# Altium footprint library lightshow.PcbLib: 7 footprints
Each footprint in its own frame and in the unit in brackets; x right, y up, seen from the top. Pads: shape width x height; smd on the part's side, far side on the other; paste and mask are expansions set on the pad; w line width, h text height; cw(c..) or ccw(c..) is an arc to the next point about the centre after c.
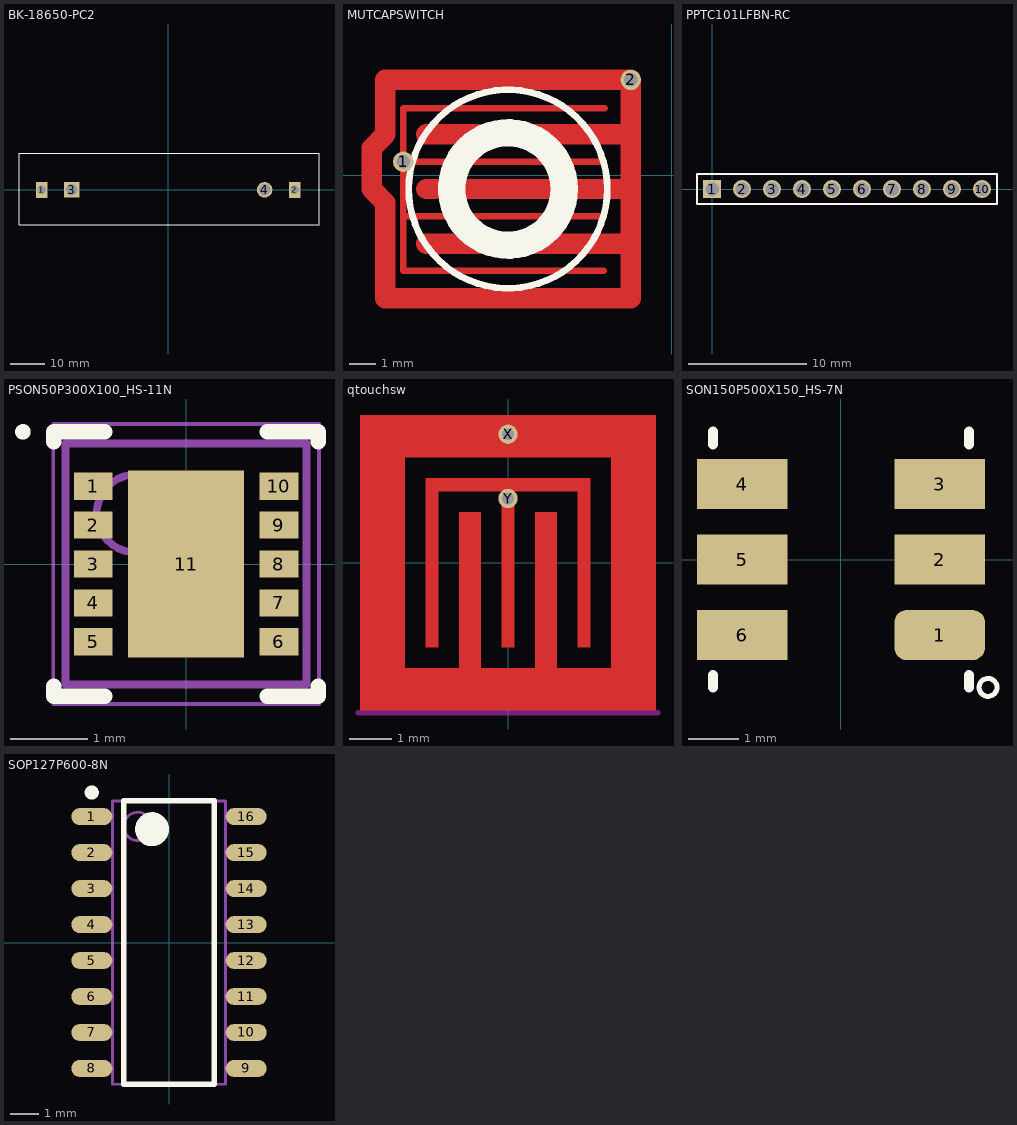
[diagram p0: the footprints below, top view; thin cyan lines are the x and y axes]

## BK-18650-PC2 [mm] "BC-86650-PC2 Battery Holder"
height 2141
pads (4):
  rect 3.302x4.572 hole 2.438 square: 1(-36.45,0) 2(36.45,0)
  rect 4.5x4.5 hole 3.3: 3(-27.805,0)
  round 4.5 hole 3.3: 4(27.805,0)
Top Overlay:
  lines w0.254: -43,-10 -43,10.5 43.5,10.5 43.5,9.5 43.5,10 43.5,-10 -43,-10 ; -43,-10 -43,-10

## MUTCAPSWITCH [mil]
pads (2):
  round 30 hole 20: 1(-393.7,20) 2(-60,140)
Top Layer:
  lines w10: -393.7,-60 -100,-60 ; -393.7,20 -100,20 ; -100,-140 -393.7,-140 -393.7,98.43 -255.91,98.43 -98.43,98.43
  lines w30: -360,-100 -60,-100 ; -360,-20 -60,-20 ; -360,60 -60,60 ; -440,-20 -440,20 -440,40 -420,60 -420,140 -380,140 -80,140 -60,140 -60,-180 -360,-180 -420,-180 -420,-40 -440,-20
Top Overlay:
  circle w10: c-240,-20 r145.6
  circle w40: c-240,-20 r82.46
Top Solder:
  region: -460,160 -20,160 -20,-200 -460,-200

## PPTC101LFBN-RC [mil] "Sullins 10 Pin .100 spacing Femal connector - Single Role"
height 0.34
pads (10):
  rect 60x60 hole 45: 1(0,0)
  round 60 hole 45: 2(100,0) 3(200,0) 4(300,0) 5(400,0) 6(500,0) 7(600,0) 8(700,0) 9(800,0) 10(900,0)
Top Overlay:
  lines w8: -50,-50 950,-50 950,50 -50,50 -50,-50

## PSON50P300X100_HS-11N [mm] "PSON, 10-Leads, Body 3.00x3.00mm, Pitch 0.50mm, Thermal Pad 2.40x1.49mm, IPC Medium Density"
height 1
pads (11):
  rect 0.5x0.35 smd: 1(-1.195,1) 2(-1.195,0.5) 3(-1.195,0) 4(-1.195,-0.5) 5(-1.195,-1) 6(1.195,-1) 7(1.195,-0.5) 8(1.195,0) 9(1.195,0.5) 10(1.195,1)
  rect 1.49x2.4 smd: 11(0,0)
Top Overlay:
  circle w0.1: c-2.1,1.7 r0.05
  lines w0.2: -1.7,-1.575 -1.7,-1.7 -1.045,-1.7 ; -1.7,1.575 -1.7,1.7 -1.045,1.7 ; 1.045,-1.7 1.7,-1.7 1.7,-1.575 ; 1.045,1.7 1.7,1.7 1.7,1.575
Mechanical 13:
  circle w0.1: c-0.65,0.65 r0.5
  lines w0.1: -1.55,-1.55 -1.55,1.55 1.55,1.55 1.55,-1.55 -1.55,-1.55
Mechanical 15:
  lines w0.05: -1.71,-1.8 -1.71,1.8 1.71,1.8 1.71,-1.8 -1.71,-1.8
  lines w0.1: -0.5,0 0.5,0 ; 0,-0.5 0,0.5
3D body: height 1, standoff 0, extent -1.55,-1.55 1.55,1.55

## qtouchsw [mil]
pads (2):
  round 18 hole 11: X(0,120) Y(0,60)
Top Layer:
  region: 137.8,137.8 -137.8,137.8 -137.8,-137.8 137.8,-137.8 137.8,137.8 96.46,98.43 96.46,-98.43 45.28,-98.43 45.28,47.24 25.59,47.24 25.59,-98.43 -25.59,-98.43 -25.59,47.24 -45.28,47.24 -45.28,-98.43 -96.46,-98.43 -96.46,98.43 96.46,98.43
  region: 76.77,78.74 76.77,-78.74 64.96,-78.74 64.96,66.93 5.91,66.93 5.91,-78.74 -5.91,-78.74 -5.91,66.93 -64.96,66.93 -64.96,-78.74 -76.77,-78.74 -76.77,78.74 76.77,78.74
Keep-Out Layer:
  lines w5: -140,-140 140,-140

## SON150P500X150_HS-7N [mm] "SON, 6-Leads, Body 5.00x5.00mm, Pitch 1.50mm, Thermal Pad 4.00x1.50mm, IPC Medium Density"
height 1.5
pads (6):
  rrect50% 1.8x1 smd: 1(1.96,-1.5)
  rect 1.8x1 smd: 2(1.96,0) 3(1.96,1.5) 4(-1.96,1.5) 5(-1.96,0) 6(-1.96,-1.5)
Top Overlay:
  circle w0.1: c2.921,-2.54 r0.178
  lines w0.2: -2.54,-2.54 -2.54,-2.29 ; -2.54,2.29 -2.54,2.54 ; 2.54,-2.54 2.54,-2.29 ; 2.54,2.29 2.54,2.54

## SOP127P600-8N [mm]
height 1.75
pads (16):
  oval 1.45x0.6 smd: 1(-2.725,4.445) 2(-2.725,3.175) 3(-2.725,1.905) 4(-2.725,0.635) 5(-2.725,-0.635) 6(-2.725,-1.905) 7(-2.725,-3.175) 8(-2.725,-4.445) 9(2.725,-4.445) 10(2.725,-3.175) 11(2.725,-1.905) 12(2.725,-0.635) 13(2.725,0.635) 14(2.725,1.905) 15(2.725,3.175) 16(2.725,4.445)
Top Overlay:
  circle w0.6: c-0.6,4 r0.3
  circle w0.25: c-2.725,5.295 r0.125
  lines w0.2: -1.6,-5 1.6,-5 1.6,5 -1.6,5 -1.6,-5
Mechanical 13:
  circle w0.1: c-1.1,4.1 r0.5
  lines w0.1: -2,-5 2,-5 2,5 -2,5 -2,-5
3D body: height 1.75, standoff 0.25, extent -2,-5 2,5